# Altium schematic symbol library 6120XX21621_61203421621.SchLib: 1 symbol
Pins are listed as number, name and electrical type; pins without a type are passive.

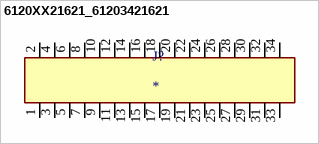
[diagram p0: symbol 6120XX21621_61203421621]

## 6120XX21621_61203421621
designator J?
34 pins, straight, gold plating; MF: Wurth Electronics; MP: 61203421621; SnapEDA_Link: https://www.snapeda.com/parts/61203421621/Wurth+Electronics/view-part/?ref=snap; Package: None; Value: *; Check_prices: https://www.snapeda.com/parts/61203421621/Wurth+Electronics/view-part/?ref=eda
footprint 61203421621
pins: 1, 2, 3, 4, 5, 6, 7, 8, 9, 10, 11, 12, 13, 14, 15, 16, 17, 18, 19, 20, 21, 22, 23, 24, 25, 26, 27, 28, 29, 30, 31, 32, 33, 34